# Altium integrated library Inductor - RF.IntLib: 95 symbols (part 2 of 2)
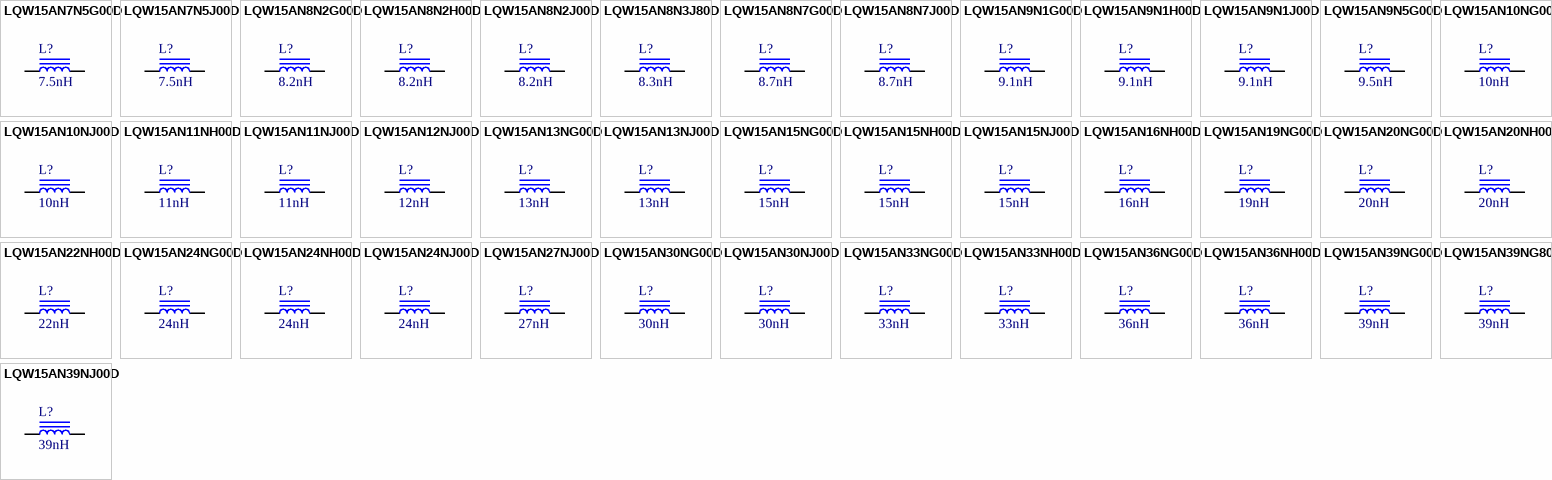
[diagram p3: symbols LQW15AN7N5G00D to LQW15AN39NJ00D]

## LQW15AN22NH00D
designator L?, comment 22nH
FIXED IND 22NH 310MA 300 MOHM; Part Number: LQW15AN22NH00D; Manufacturer: Murata Electronics North America; TemperatureRange: -55C ~ 125C; Tolerance: 3%; Type: Wirewound; Q at Frequency: 25 @ 250MHz; DC Resistance: 300 mOhm Max; Shielding: Unshielded; Value: 22nH; PartId: 6378; Supplier 1: Digi-Key; Supplier Part Number 1: 490-6788-2-ND; ComponentLink1Description: Datasheet; ComponentLink1URL: http://search.murata.co.jp/Ceramy/image/img/PDF/ENG/L0075S0080LQW15A_00.pdf; ComponentLink2Description: Digi-Key listing; ComponentLink2URL: http://digikey.com/product-detail/en/LQW15AN22NH00D/490-6788-2-ND/2594873; Price: 0.077; Device Package: 0402 (1005 Metric)
footprint IND 0402/1005 RF WW
pins: 1, 2

## LQW15AN24NG00D
designator L?, comment 24nH
FIXED IND 24NH 280MA 520 MOHM; Part Number: LQW15AN24NG00D; Manufacturer: Murata Electronics North America; TemperatureRange: -55C ~ 125C; Tolerance: 2%; Type: Wirewound; Q at Frequency: 25 @ 250MHz; DC Resistance: 520 mOhm Max; Shielding: Unshielded; Value: 24nH; PartId: 6421; Supplier 1: Digi-Key; Supplier Part Number 1: 490-6789-2-ND; ComponentLink1Description: Datasheet; ComponentLink1URL: http://search.murata.co.jp/Ceramy/image/img/PDF/ENG/L0075S0080LQW15A_00.pdf; ComponentLink2Description: Digi-Key listing; ComponentLink2URL: http://digikey.com/product-detail/en/LQW15AN24NG00D/490-6789-2-ND/2594877; Price: 0.0807; Device Package: 0402 (1005 Metric)
footprint IND 0402/1005 RF WW
pins: 1, 2

## LQW15AN24NH00D
designator L?, comment 24nH
FIXED IND 24NH 280MA 520 MOHM; Part Number: LQW15AN24NH00D; Manufacturer: Murata Electronics North America; TemperatureRange: -55C ~ 125C; Tolerance: 3%; Type: Wirewound; Q at Frequency: 25 @ 250MHz; DC Resistance: 520 mOhm Max; Shielding: Unshielded; Value: 24nH; PartId: 6365; Supplier 1: Digi-Key; Supplier Part Number 1: 490-6790-2-ND; ComponentLink1Description: Datasheet; ComponentLink1URL: http://search.murata.co.jp/Ceramy/image/img/PDF/ENG/L0075S0080LQW15A_00.pdf; ComponentLink2Description: Digi-Key listing; ComponentLink2URL: http://digikey.com/product-detail/en/LQW15AN24NH00D/490-6790-2-ND/700017; Price: 0.0723; Device Package: 0402 (1005 Metric)
footprint IND 0402/1005 RF WW
pins: 1, 2

## LQW15AN24NJ00D
designator L?, comment 24nH
FIXED IND 24NH 280MA 520 MOHM; Part Number: LQW15AN24NJ00D; Manufacturer: Murata Electronics North America; TemperatureRange: -55C ~ 125C; Tolerance: 5%; Type: Wirewound; Q at Frequency: 25 @ 250MHz; DC Resistance: 520 mOhm Max; Shielding: Unshielded; Value: 24nH; PartId: 6367; Supplier 1: Digi-Key; Supplier Part Number 1: 490-6791-2-ND; ComponentLink1Description: Datasheet; ComponentLink1URL: http://search.murata.co.jp/Ceramy/image/img/PDF/ENG/L0075S0080LQW15A_00.pdf; ComponentLink2Description: Digi-Key listing; ComponentLink2URL: http://digikey.com/product-detail/en/LQW15AN24NJ00D/490-6791-2-ND/2594878; Price: 0.0733; Device Package: 0402 (1005 Metric)
footprint IND 0402/1005 RF WW
pins: 1, 2

## LQW15AN27NJ00D
designator L?, comment 27nH
FIXED IND 27NH 280MA 520 MOHM; Part Number: LQW15AN27NJ00D; Manufacturer: Murata Electronics North America; TemperatureRange: -55C ~ 125C; Tolerance: 5%; Type: Wirewound; Q at Frequency: 25 @ 250MHz; DC Resistance: 520 mOhm Max; Shielding: Unshielded; Value: 27nH; PartId: 6352; Supplier 1: Digi-Key; Supplier Part Number 1: 490-1151-2-ND; ComponentLink1Description: Datasheet; ComponentLink1URL: http://search.murata.co.jp/Ceramy/image/img/PDF/ENG/L0075S0080LQW15A_00.pdf; ComponentLink2Description: Digi-Key listing; ComponentLink2URL: http://digikey.com/product-detail/en/LQW15AN27NJ00D/490-1151-2-ND/584360; Price: 0.0689; Device Package: 0402 (1005 Metric)
footprint IND 0402/1005 RF WW
pins: 1, 2

## LQW15AN30NG00D
designator L?, comment 30nH
FIXED IND 30NH 270MA 580 MOHM; Part Number: LQW15AN30NG00D; Manufacturer: Murata Electronics North America; TemperatureRange: -55C ~ 125C; Tolerance: 2%; Type: Wirewound; Q at Frequency: 25 @ 250MHz; DC Resistance: 580 mOhm Max; Shielding: Unshielded; Value: 30nH; PartId: 6403; Supplier 1: Digi-Key; Supplier Part Number 1: 490-6802-2-ND; ComponentLink1Description: Datasheet; ComponentLink1URL: http://search.murata.co.jp/Ceramy/image/img/PDF/ENG/L0075S0080LQW15A_00.pdf; ComponentLink2Description: Digi-Key listing; ComponentLink2URL: http://digikey.com/product-detail/en/LQW15AN30NG00D/490-6802-2-ND/2594894; Price: 0.0807; Device Package: 0402 (1005 Metric)
footprint IND 0402/1005 RF WW
pins: 1, 2

## LQW15AN30NJ00D
designator L?, comment 30nH
FIXED IND 30NH 270MA 580 MOHM; Part Number: LQW15AN30NJ00D; Manufacturer: Murata Electronics North America; TemperatureRange: -55C ~ 125C; Tolerance: 5%; Type: Wirewound; Q at Frequency: 25 @ 250MHz; DC Resistance: 580 mOhm Max; Shielding: Unshielded; Value: 30nH; PartId: 6368; Supplier 1: Digi-Key; Supplier Part Number 1: 490-6803-2-ND; ComponentLink1Description: Datasheet; ComponentLink1URL: http://search.murata.co.jp/Ceramy/image/img/PDF/ENG/L0075S0080LQW15A_00.pdf; ComponentLink2Description: Digi-Key listing; ComponentLink2URL: http://digikey.com/product-detail/en/LQW15AN30NJ00D/490-6803-2-ND/2594896; Price: 0.0733; Device Package: 0402 (1005 Metric)
footprint IND 0402/1005 RF WW
pins: 1, 2

## LQW15AN33NG00D
designator L?, comment 33nH
FIXED IND 33NH 260MA 630 MOHM; Part Number: LQW15AN33NG00D; Manufacturer: Murata Electronics North America; TemperatureRange: -55C ~ 125C; Tolerance: 2%; Type: Wirewound; Q at Frequency: 25 @ 250MHz; DC Resistance: 630 mOhm Max; Shielding: Unshielded; Value: 33nH; PartId: 6423; Supplier 1: Digi-Key; Supplier Part Number 1: 490-6804-2-ND; ComponentLink1Description: Datasheet; ComponentLink1URL: http://search.murata.co.jp/Ceramy/image/img/PDF/ENG/L0075S0080LQW15A_00.pdf; ComponentLink2Description: Digi-Key listing; ComponentLink2URL: http://digikey.com/product-detail/en/LQW15AN33NG00D/490-6804-2-ND/2594897; Price: 0.0807; Device Package: 0402 (1005 Metric)
footprint IND 0402/1005 RF WW
pins: 1, 2

## LQW15AN33NH00D
designator L?, comment 33nH
FIXED IND 33NH 260MA 630 MOHM; Part Number: LQW15AN33NH00D; Manufacturer: Murata Electronics North America; TemperatureRange: -55C ~ 125C; Tolerance: 3%; Type: Wirewound; Q at Frequency: 25 @ 250MHz; DC Resistance: 630 mOhm Max; Shielding: Unshielded; Value: 33nH; PartId: 6381; Supplier 1: Digi-Key; Supplier Part Number 1: 490-6805-2-ND; ComponentLink1Description: Datasheet; ComponentLink1URL: http://search.murata.co.jp/Ceramy/image/img/PDF/ENG/L0075S0080LQW15A_00.pdf; ComponentLink2Description: Digi-Key listing; ComponentLink2URL: http://digikey.com/product-detail/en/LQW15AN33NH00D/490-6805-2-ND/2594898; Price: 0.077; Device Package: 0402 (1005 Metric)
footprint IND 0402/1005 RF WW
pins: 1, 2

## LQW15AN36NG00D
designator L?, comment 36nH
FIXED IND 36NH 260MA 630 MOHM; Part Number: LQW15AN36NG00D; Manufacturer: Murata Electronics North America; TemperatureRange: -55C ~ 125C; Tolerance: 2%; Type: Wirewound; Q at Frequency: 25 @ 250MHz; DC Resistance: 630 mOhm Max; Shielding: Unshielded; Value: 36nH; PartId: 6411; Supplier 1: Digi-Key; Supplier Part Number 1: 490-6806-2-ND; ComponentLink1Description: Datasheet; ComponentLink1URL: http://search.murata.co.jp/Ceramy/image/img/PDF/ENG/L0075S0080LQW15A_00.pdf; ComponentLink2Description: Digi-Key listing; ComponentLink2URL: http://digikey.com/product-detail/en/LQW15AN36NG00D/490-6806-2-ND/2594899; Price: 0.0807; Device Package: 0402 (1005 Metric)
footprint IND 0402/1005 RF WW
pins: 1, 2

## LQW15AN36NH00D
designator L?, comment 36nH
FIXED IND 36NH 260MA 630 MOHM; Part Number: LQW15AN36NH00D; Manufacturer: Murata Electronics North America; TemperatureRange: -55C ~ 125C; Tolerance: 3%; Type: Wirewound; Q at Frequency: 25 @ 250MHz; DC Resistance: 630 mOhm Max; Shielding: Unshielded; Value: 36nH; PartId: 6395; Supplier 1: Digi-Key; Supplier Part Number 1: 490-12078-2-ND; ComponentLink1Description: Datasheet; ComponentLink1URL: http://search.murata.co.jp/Ceramy/image/img/PDF/ENG/L0075S0080LQW15A_00.pdf; ComponentLink2Description: Digi-Key listing; ComponentLink2URL: http://digikey.com/product-detail/en/LQW15AN36NH00D/490-12078-2-ND/2594900; Price: 0.077; Device Package: 0402 (1005 Metric)
footprint IND 0402/1005 RF WW
pins: 1, 2

## LQW15AN39NG00D
designator L?, comment 39nH
FIXED IND 39NH 250MA 700 MOHM; Part Number: LQW15AN39NG00D; Manufacturer: Murata Electronics North America; TemperatureRange: -55C ~ 125C; Tolerance: 2%; Type: Wirewound; Q at Frequency: 25 @ 250MHz; DC Resistance: 700 mOhm Max; Shielding: Unshielded; Value: 39nH; PartId: 6401; Supplier 1: Digi-Key; Supplier Part Number 1: 490-6808-2-ND; ComponentLink1Description: Datasheet; ComponentLink1URL: http://search.murata.co.jp/Ceramy/image/img/PDF/ENG/L0075S0080LQW15A_00.pdf; ComponentLink2Description: Digi-Key listing; ComponentLink2URL: http://digikey.com/product-detail/en/LQW15AN39NG00D/490-6808-2-ND/2594902; Price: 0.0807; Device Package: 0402 (1005 Metric)
footprint IND 0402/1005 RF WW
pins: 1, 2

## LQW15AN39NG80D
designator L?, comment 39nH
FIXED IND 39NH 530MA 456 MOHM; Part Number: LQW15AN39NG80D; Manufacturer: Murata Electronics North America; TemperatureRange: -55C ~ 125C; Tolerance: 2%; Type: Wirewound; Q at Frequency: 28 @ 250MHz; DC Resistance: 456 mOhm Max; Shielding: Unshielded; Value: 39nH; PartId: 6441; Supplier 1: Digi-Key; Supplier Part Number 1: 490-7639-2-ND; ComponentLink1Description: Datasheet; ComponentLink1URL: http://psearch.murata.com/inductor/product/LQW15AN39NG80%23.pdf; ComponentLink2Description: Digi-Key listing; ComponentLink2URL: http://digikey.com/product-detail/en/LQW15AN39NG80D/490-7639-2-ND/4292352; Price: 0.1102; Device Package: 0402 (1005 Metric)
footprint IND 0402/1005 RF WW
pins: 1, 2

## LQW15AN39NJ00D
designator L?, comment 39nH
FIXED IND 39NH 250MA 700 MOHM; Part Number: LQW15AN39NJ00D; Manufacturer: Murata Electronics North America; TemperatureRange: -55C ~ 125C; Tolerance: 5%; Type: Wirewound; Q at Frequency: 25 @ 250MHz; DC Resistance: 700 mOhm Max; Shielding: Unshielded; Value: 39nH; PartId: 6362; Supplier 1: Digi-Key; Supplier Part Number 1: 490-1153-2-ND; ComponentLink1Description: Datasheet; ComponentLink1URL: http://search.murata.co.jp/Ceramy/image/img/PDF/ENG/L0075S0080LQW15A_00.pdf; ComponentLink2Description: Digi-Key listing; ComponentLink2URL: http://digikey.com/product-detail/en/LQW15AN39NJ00D/490-1153-2-ND/584362; Price: 0.0689; Device Package: 0402 (1005 Metric)
footprint IND 0402/1005 RF WW
pins: 1, 2

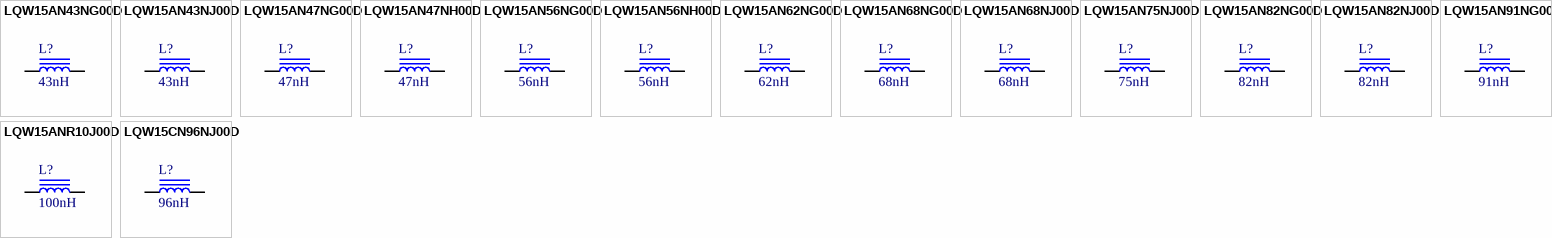
[diagram p2: symbols LQW15AN43NG00D to LQW15CN96NJ00D]

## LQW15AN43NG00D
designator L?, comment 43nH
FIXED IND 43NH 250MA 700 MOHM; Part Number: LQW15AN43NG00D; Manufacturer: Murata Electronics North America; TemperatureRange: -55C ~ 125C; Tolerance: 2%; Type: Wirewound; Q at Frequency: 25 @ 250MHz; DC Resistance: 700 mOhm Max; Shielding: Unshielded; Value: 43nH; PartId: 6408; Supplier 1: Digi-Key; Supplier Part Number 1: 490-6817-2-ND; ComponentLink1Description: Datasheet; ComponentLink1URL: http://search.murata.co.jp/Ceramy/image/img/PDF/ENG/L0075S0080LQW15A_00.pdf; ComponentLink2Description: Digi-Key listing; ComponentLink2URL: http://digikey.com/product-detail/en/LQW15AN43NG00D/490-6817-2-ND/2594916; Price: 0.0807; Device Package: 0402 (1005 Metric)
footprint IND 0402/1005 RF WW
pins: 1, 2

## LQW15AN43NJ00D
designator L?, comment 43nH
FIXED IND 43NH 250MA 700 MOHM; Part Number: LQW15AN43NJ00D; Manufacturer: Murata Electronics North America; TemperatureRange: -55C ~ 125C; Tolerance: 5%; Type: Wirewound; Q at Frequency: 25 @ 250MHz; DC Resistance: 700 mOhm Max; Shielding: Unshielded; Value: 43nH; PartId: 6369; Supplier 1: Digi-Key; Supplier Part Number 1: 490-6818-2-ND; ComponentLink1Description: Datasheet; ComponentLink1URL: http://search.murata.co.jp/Ceramy/image/img/PDF/ENG/L0075S0080LQW15A_00.pdf; ComponentLink2Description: Digi-Key listing; ComponentLink2URL: http://digikey.com/product-detail/en/LQW15AN43NJ00D/490-6818-2-ND/2594918; Price: 0.0733; Device Package: 0402 (1005 Metric)
footprint IND 0402/1005 RF WW
pins: 1, 2

## LQW15AN47NG00D
designator L?, comment 47nH
FIXED IND 47NH 210MA 1.08 OHM; Part Number: LQW15AN47NG00D; Manufacturer: Murata Electronics North America; TemperatureRange: -55C ~ 125C; Tolerance: 2%; Type: Wirewound; Q at Frequency: 25 @ 200MHz; DC Resistance: 1.08 Ohm Max; Shielding: Unshielded; Value: 47nH; PartId: 6412; Supplier 1: Digi-Key; Supplier Part Number 1: 490-6819-2-ND; ComponentLink1Description: Datasheet; ComponentLink1URL: http://search.murata.co.jp/Ceramy/image/img/PDF/ENG/L0075S0080LQW15A_00.pdf; ComponentLink2Description: Digi-Key listing; ComponentLink2URL: http://digikey.com/product-detail/en/LQW15AN47NG00D/490-6819-2-ND/2594919; Price: 0.0807; Device Package: 0402 (1005 Metric)
footprint IND 0402/1005 RF WW
pins: 1, 2

## LQW15AN47NH00D
designator L?, comment 47nH
FIXED IND 47NH 210MA 1.08 OHM; Part Number: LQW15AN47NH00D; Manufacturer: Murata Electronics North America; TemperatureRange: -55C ~ 125C; Tolerance: 3%; Type: Wirewound; Q at Frequency: 25 @ 200MHz; DC Resistance: 1.08 Ohm Max; Shielding: Unshielded; Value: 47nH; PartId: 6386; Supplier 1: Digi-Key; Supplier Part Number 1: 490-6820-2-ND; ComponentLink1Description: Datasheet; ComponentLink1URL: http://search.murata.co.jp/Ceramy/image/img/PDF/ENG/L0075S0080LQW15A_00.pdf; ComponentLink2Description: Digi-Key listing; ComponentLink2URL: http://digikey.com/product-detail/en/LQW15AN47NH00D/490-6820-2-ND/2594920; Price: 0.077; Device Package: 0402 (1005 Metric)
footprint IND 0402/1005 RF WW
pins: 1, 2

## LQW15AN56NG00D
designator L?, comment 56nH
FIXED IND 56NH 200MA 1.17 OHM; Part Number: LQW15AN56NG00D; Manufacturer: Murata Electronics North America; TemperatureRange: -55C ~ 125C; Tolerance: 2%; Type: Wirewound; Q at Frequency: 25 @ 200MHz; DC Resistance: 1.17 Ohm Max; Shielding: Unshielded; Value: 56nH; PartId: 6404; Supplier 1: Digi-Key; Supplier Part Number 1: 490-6830-2-ND; ComponentLink1Description: Datasheet; ComponentLink1URL: http://search.murata.co.jp/Ceramy/image/img/PDF/ENG/L0075S0080LQW15A_00.pdf; ComponentLink2Description: Digi-Key listing; ComponentLink2URL: http://digikey.com/product-detail/en/LQW15AN56NG00D/490-6830-2-ND/2594932; Price: 0.0807; Device Package: 0402 (1005 Metric)
footprint IND 0402/1005 RF WW
pins: 1, 2

## LQW15AN56NH00D
designator L?, comment 56nH
FIXED IND 56NH 200MA 1.17 OHM; Part Number: LQW15AN56NH00D; Manufacturer: Murata Electronics North America; TemperatureRange: -55C ~ 125C; Tolerance: 3%; Type: Wirewound; Q at Frequency: 20 @ 200MHz; DC Resistance: 1.17 Ohm Max; Shielding: Unshielded; Value: 56nH; PartId: 6394; Supplier 1: Digi-Key; Supplier Part Number 1: 490-11765-2-ND; ComponentLink1Description: Datasheet; ComponentLink1URL: http://www.murata.com/products/catalog/pdf/o05e.pdf; ComponentLink2Description: Digi-Key listing; ComponentLink2URL: http://digikey.com/product-detail/en/LQW15AN56NH00D/490-11765-2-ND/2594933; Price: 0.077; Device Package: 0402 (1005 Metric)
footprint IND 0402/1005 RF WW
pins: 1, 2

## LQW15AN62NG00D
designator L?, comment 62nH
FIXED IND 62NH 145MA 1.82 OHM; Part Number: LQW15AN62NG00D; Manufacturer: Murata Electronics North America; TemperatureRange: -55C ~ 125C; Tolerance: 2%; Type: Wirewound; Q at Frequency: 20 @ 200MHz; DC Resistance: 1.82 Ohm Max; Shielding: Unshielded; Value: 62nH; PartId: 6425; Supplier 1: Digi-Key; Supplier Part Number 1: 490-6836-2-ND; ComponentLink1Description: Datasheet; ComponentLink1URL: http://search.murata.co.jp/Ceramy/image/img/PDF/ENG/L0075S0080LQW15A_00.pdf; ComponentLink2Description: Digi-Key listing; ComponentLink2URL: http://digikey.com/product-detail/en/LQW15AN62NG00D/490-6836-2-ND/2594943; Price: 0.0807; Device Package: 0402 (1005 Metric)
footprint IND 0402/1005 RF WW
pins: 1, 2

## LQW15AN68NG00D
designator L?, comment 68nH
FIXED IND 68NH 140MA 1.96 OHM; Part Number: LQW15AN68NG00D; Manufacturer: Murata Electronics North America; TemperatureRange: -55C ~ 125C; Tolerance: 2%; Type: Wirewound; Q at Frequency: 20 @ 200MHz; DC Resistance: 1.96 Ohm Max; Shielding: Unshielded; Value: 68nH; PartId: 6414; Supplier 1: Digi-Key; Supplier Part Number 1: 490-6837-2-ND; ComponentLink1Description: Datasheet; ComponentLink1URL: http://search.murata.co.jp/Ceramy/image/img/PDF/ENG/L0075S0080LQW15A_00.pdf; ComponentLink2Description: Digi-Key listing; ComponentLink2URL: http://digikey.com/product-detail/en/LQW15AN68NG00D/490-6837-2-ND/2594946; Price: 0.0807; Device Package: 0402 (1005 Metric)
footprint IND 0402/1005 RF WW
pins: 1, 2

## LQW15AN68NJ00D
designator L?, comment 68nH
FIXED IND 68NH 140MA 1.96 OHM; Part Number: LQW15AN68NJ00D; Manufacturer: Murata Electronics North America; TemperatureRange: -55C ~ 125C; Tolerance: 5%; Type: Wirewound; Q at Frequency: 20 @ 200MHz; DC Resistance: 1.96 Ohm Max; Shielding: Unshielded; Value: 68nH; PartId: 6357; Supplier 1: Digi-Key; Supplier Part Number 1: 490-1156-2-ND; ComponentLink1Description: Datasheet; ComponentLink1URL: http://search.murata.co.jp/Ceramy/image/img/PDF/ENG/L0075S0080LQW15A_00.pdf; ComponentLink2Description: Digi-Key listing; ComponentLink2URL: http://digikey.com/product-detail/en/LQW15AN68NJ00D/490-1156-2-ND/584365; Price: 0.0689; Device Package: 0402 (1005 Metric)
footprint IND 0402/1005 RF WW
pins: 1, 2

## LQW15AN75NJ00D
designator L?, comment 75nH
FIXED IND 75NH 135MA 2.1 OHM 0402; Part Number: LQW15AN75NJ00D; Manufacturer: Murata Electronics North America; TemperatureRange: -55C ~ 125C; Tolerance: 5%; Type: Wirewound; Q at Frequency: 20 @ 150MHz; DC Resistance: 2.1 Ohm Max; Shielding: Unshielded; Value: 75nH; PartId: 6373; Supplier 1: Digi-Key; Supplier Part Number 1: 490-6843-2-ND; ComponentLink1Description: Datasheet; ComponentLink1URL: http://search.murata.co.jp/Ceramy/image/img/PDF/ENG/L0075S0080LQW15A_00.pdf; ComponentLink2Description: Digi-Key listing; ComponentLink2URL: http://digikey.com/product-detail/en/LQW15AN75NJ00D/490-6843-2-ND/2594954; Price: 0.0733; Device Package: 0402 (1005 Metric)
footprint IND 0402/1005 RF WW
pins: 1, 2

## LQW15AN82NG00D
designator L?, comment 82nH
FIXED IND 82NH 130MA 2.24 OHM; Part Number: LQW15AN82NG00D; Manufacturer: Murata Electronics North America; TemperatureRange: -55C ~ 125C; Tolerance: 2%; Type: Wirewound; Q at Frequency: 20 @ 150MHz; DC Resistance: 2.24 Ohm Max; Shielding: Unshielded; Value: 82nH; PartId: 6417; Supplier 1: Digi-Key; Supplier Part Number 1: 490-6848-2-ND; ComponentLink1Description: Datasheet; ComponentLink1URL: http://search.murata.co.jp/Ceramy/image/img/PDF/ENG/L0075S0080LQW15A_00.pdf; ComponentLink2Description: Digi-Key listing; ComponentLink2URL: http://digikey.com/product-detail/en/LQW15AN82NG00D/490-6848-2-ND/2594960; Price: 0.0807; Device Package: 0402 (1005 Metric)
footprint IND 0402/1005 RF WW
pins: 1, 2

## LQW15AN82NJ00D
designator L?, comment 82nH
FIXED IND 82NH 130MA 2.24 OHM; Part Number: LQW15AN82NJ00D; Manufacturer: Murata Electronics North America; TemperatureRange: -55C ~ 125C; Tolerance: 5%; Type: Wirewound; Q at Frequency: 20 @ 150MHz; DC Resistance: 2.24 Ohm Max; Shielding: Unshielded; Value: 82nH; PartId: 6358; Supplier 1: Digi-Key; Supplier Part Number 1: 490-1157-2-ND; ComponentLink1Description: Datasheet; ComponentLink1URL: http://search.murata.co.jp/Ceramy/image/img/PDF/ENG/L0075S0080LQW15A_00.pdf; ComponentLink2Description: Digi-Key listing; ComponentLink2URL: http://digikey.com/product-detail/en/LQW15AN82NJ00D/490-1157-2-ND/584366; Price: 0.0689; Device Package: 0402 (1005 Metric)
footprint IND 0402/1005 RF WW
pins: 1, 2

## LQW15AN91NG00D
designator L?, comment 91nH
FIXED IND 91NH 125MA 2.38 OHM; Part Number: LQW15AN91NG00D; Manufacturer: Murata Electronics North America; TemperatureRange: -55C ~ 125C; Tolerance: 2%; Type: Wirewound; Q at Frequency: 20 @ 150MHz; DC Resistance: 2.38 Ohm Max; Shielding: Unshielded; Value: 91nH; PartId: 6428; Supplier 1: Digi-Key; Supplier Part Number 1: 490-6853-2-ND; ComponentLink1Description: Datasheet; ComponentLink1URL: http://search.murata.co.jp/Ceramy/image/img/PDF/ENG/L0075S0080LQW15A_00.pdf; ComponentLink2Description: Digi-Key listing; ComponentLink2URL: http://digikey.com/product-detail/en/LQW15AN91NG00D/490-6853-2-ND/2594966; Price: 0.0807; Device Package: 0402 (1005 Metric)
footprint IND 0402/1005 RF WW
pins: 1, 2

## LQW15ANR10J00D
designator L?, comment 100nH
FIXED IND 100NH 120MA 2.52 OHM; Part Number: LQW15ANR10J00D; Manufacturer: Murata Electronics North America; TemperatureRange: -55C ~ 125C; Tolerance: 5%; Type: Wirewound; Q at Frequency: 20 @ 150MHz; DC Resistance: 2.52 Ohm Max; Shielding: Unshielded; Value: 100nH; PartId: 6349; Supplier 1: Digi-Key; Supplier Part Number 1: 490-4090-2-ND; ComponentLink1Description: Datasheet; ComponentLink1URL: http://search.murata.co.jp/Ceramy/image/img/PDF/ENG/L0075S0080LQW15A_00.pdf; ComponentLink2Description: Digi-Key listing; ComponentLink2URL: http://digikey.com/product-detail/en/LQW15ANR10J00D/490-4090-2-ND/1016249; Price: 0.0689; Device Package: 0402 (1005 Metric)
footprint IND 0402/1005 RF WW
pins: 1, 2

## LQW15CN96NJ00D
designator L?, comment 96nH
FIXED IND 96NH 730MA 160 MOHM; Part Number: LQW15CN96NJ00D; Manufacturer: Murata Electronics North America; TemperatureRange: -55C ~ 125C; Tolerance: 5%; Type: Wirewound; DC Resistance: 160 mOhm Max; Shielding: Unshielded; Value: 96nH; PartId: 6442; Supplier 1: Digi-Key; Supplier Part Number 1: 490-12081-2-ND; ComponentLink1Description: Datasheet; ComponentLink1URL: http://www.murata.com/products/catalog/pdf/o05e.pdf; ComponentLink2Description: Digi-Key listing; ComponentLink2URL: http://digikey.com/product-detail/en/LQW15CN96NJ00D/490-12081-2-ND/4359662; Price: 0.3038; Q at Frequency: -; Device Package: 0402 (1005 Metric)
footprint IND 0402/1005 RF WW
pins: 1, 2